# EAGLE library part ENC28J60-I_SS (library SamacSys_Parts)
Stand-Alone Ethernet Controller Source: Datasheet <https://ww1.microchip.com/downloads/en/DeviceDoc/39662e.pdf>
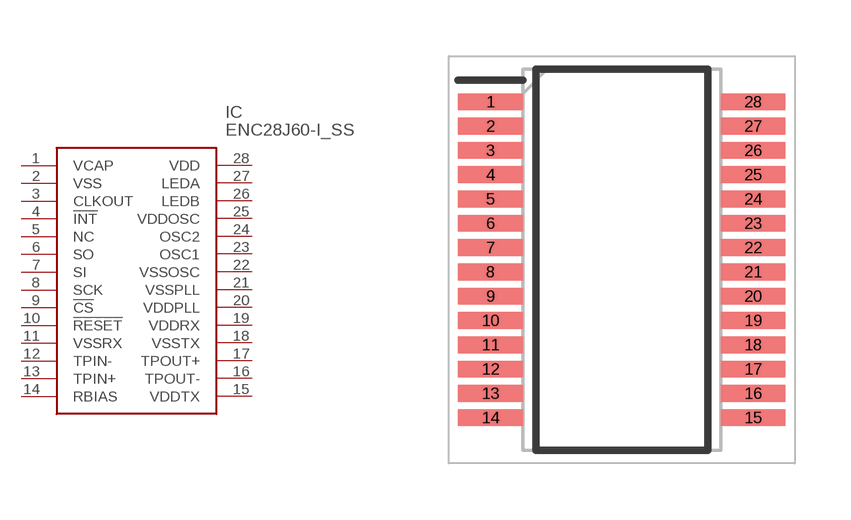
[diagram p161: symbol with the pads of SOP65P780X200-28N; footprint SOP65P780X200-28N]

Designator prefix IC

## ENC28J60-I_SS (DESCRIPTION: Stand-Alone Ethernet Controller; HEIGHT: 2mm; MANUFACTURER_NAME: Microchip; MANUFACTURER_PART_NUMBER: ENC28J60-I/SS; MOUSER_PART_NUMBER: 579-ENC28J60-I/SS; MOUSER_PRICE-STOCK: https://www.mouser.co.uk/ProductDetail/Microchip-Technology/ENC28J60-I-SS?qs=sZV%2FY0jo9sFO7OPgnsKIzA%3D%3D)  [SOP65P780X200-28N]
1  VCAP
2  VSS
3  CLKOUT
4  !INT
5  NC  nc
6  SO
7  SI
8  SCK
9  !CS
10  !RESET
11  VSSRX
12  TPIN-
13  TPIN+
14  RBIAS
15  VDDTX
16  TPOUT-
17  TPOUT+
18  VSSTX
19  VDDRX
20  VDDPLL
21  VSSPLL
22  VSSOSC
23  OSC1
24  OSC2
25  VDDOSC
26  LEDB
27  LEDA
28  VDD

## Footprint SOP65P780X200-28N (pad centres in mm)
SSOP-28
smd 1.725 x 0.45: 1 -3.512,4.225; 2 -3.512,3.575; 3 -3.512,2.925; 4 -3.512,2.275; 5 -3.512,1.625; 6 -3.512,0.975; 7 -3.512,0.325; 8 -3.512,-0.325; 9 -3.512,-0.975; 10 -3.512,-1.625; 11 -3.512,-2.275; 12 -3.512,-2.925; 13 -3.512,-3.575; 14 -3.512,-4.225; 15 3.512,-4.225; 16 3.512,-3.575; 17 3.512,-2.925; 18 3.512,-2.275; 19 3.512,-1.625; 20 3.512,-0.975; 21 3.512,-0.325; 22 3.512,0.325; 23 3.512,0.975; 24 3.512,1.625; 25 3.512,2.275; 26 3.512,2.925; 27 3.512,3.575; 28 3.512,4.225